# Altium footprint library Ecohydro.PcbLib: 21 footprints (part 2 of 2)
Each footprint in its own frame and in the unit in brackets; x right, y up, seen from the top. Pads: shape width x height; smd on the part's side, far side on the other; paste and mask are expansions set on the pad; w line width, h text height; cw(c..) or ccw(c..) is an arc to the next point about the centre after c.
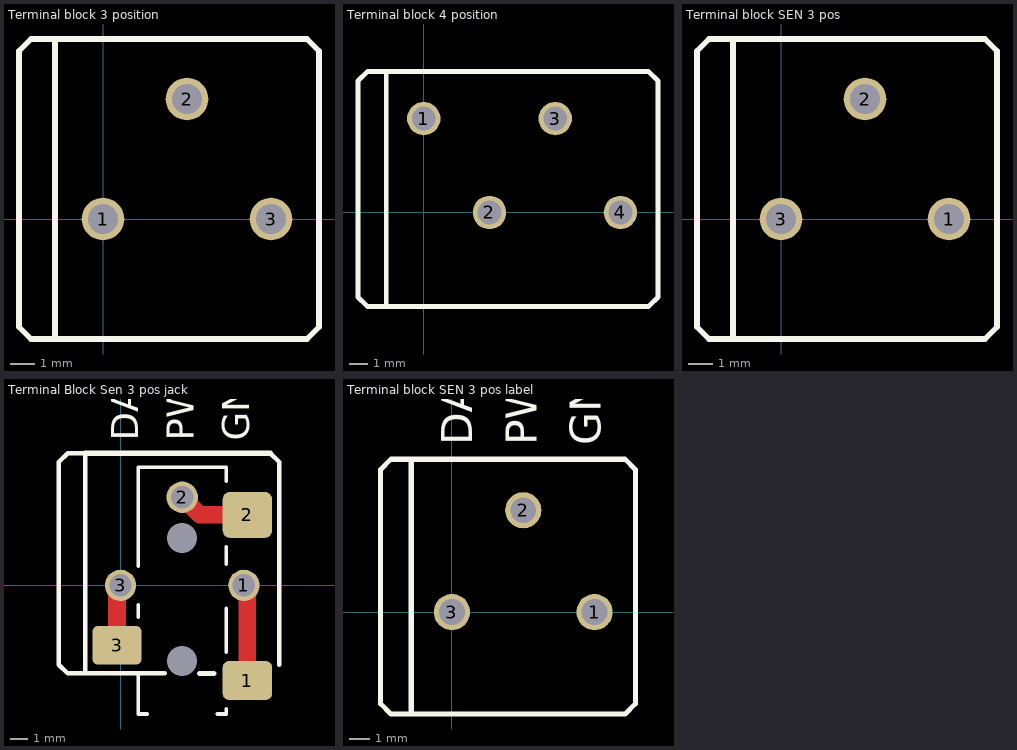
[diagram p1: the footprints below, top view; thin cyan lines are the x and y axes]

## Terminal block 3 position [mil]
height 531.5
pads (3):
  round 70 hole 50: 1(0,0) 2(137.8,196.85) 3(275.59,0)
Top Overlay:
  lines w10: -78.74,-177.17 -78.74,-196.85 ; -78.74,-196.85 334.65,-196.85 354.33,-177.17 354.33,-78.74 354.33,177.17 354.33,275.59 334.65,295.28 -78.74,295.28 ; -78.74,-196.85 -118.11,-196.85 -137.8,-177.17 -137.8,-137.8 -137.8,-118.11 -137.8,275.59 -118.11,295.28 -78.74,295.28 ; -78.74,-196.85 -78.74,295.28

## Terminal block 4 position [mil]
height 531.5
pads (4):
  round 70 hole 50: 1(0,196.85) 2(137.8,0) 3(275.59,196.85) 4(412.2,0)
Top Overlay:
  lines w10: -78.74,-177.17 -78.74,-196.85 ; 490.94,-78.74 490.94,177.17 ; -78.74,-196.85 334.65,-196.85 471.26,-196.85 490.94,-177.17 490.94,177.17 ; -78.74,-196.85 -118.11,-196.85 -137.8,-177.17 -137.8,-137.8 -137.8,-118.11 -137.8,275.59 -118.11,295.28 -78.74,295.28 ; -78.74,-196.85 -78.74,295.28 ; -78.74,295.28 334.65,295.28 471.26,295.28 490.94,275.59 490.94,177.17

## Terminal block SEN 3 pos [mil]
height 531.5
pads (3):
  round 70 hole 50: 1(275.59,0) 2(137.8,196.85) 3(0,0)
Top Overlay:
  lines w10: -78.74,-177.17 -78.74,-196.85 ; -78.74,-196.85 -78.74,295.28 ; -78.74,-196.85 -118.11,-196.85 -137.8,-177.17 -137.8,-137.8 -137.8,-118.11 -137.8,275.59 -118.11,295.28 -78.74,295.28 ; -78.74,-196.85 334.65,-196.85 354.33,-177.17 354.33,-78.74 354.33,177.17 354.33,275.59 334.65,295.28 -78.74,295.28

## Terminal Block Sen 3 pos jack [mm]
height 5.08
pads (8):
  round 1.778 hole 1.27: 1(7,0) 2(3.5,5) 3(0,0)
  rrect30% 2.8x2.2 smd: 1(7.2,-5.4) 3(-0.2,-3.4)
  rrect30% 2.8x2.6 smd: 2(7.2,4)
  round 1 hole 1.7 unplated: ""(3.5,-4.3) ""(3.5,2.7)
Top Layer:
  lines w1: -0.2,-3.4 -0.2,-0.2 0,0 ; 3.5,5 4.5,4 7.2,4 ; 7,0 7.2,-0.2 7.2,-5.4
Top Overlay:
  lines w0.203: 1,-5 1,-7.3 1.5,-7.3 ; 1,-1.8 1,-1.1 ; 1,1.1 1,6.7 6,6.7 6,5.9 ; 5.5,-7.3 6,-7.3 6,-7 ; 6,-3.8 6,-1.3 ; 6,1.2 6,2.2
  lines w0.254: -2,-4.5 -2,-5 ; 2.5,-5 -2,-5 ; 8.5,7.5 9,7 9,4.5 9,-2 9,-4.5 ; -2,-5 -2,7.5 -3,7.5 -3.5,7 -3.5,-3 -3.5,-3.5 -3.5,-4.5 -3,-5 -2,-5
  lines w0.305: -2,7.5 4.5,7.5 8.5,7.5 ; 4.5,-5 5.3,-5
  text "GND" at 7.31,8.2 h1.52
  text "PWR" at 4.155,8.2 h1.52
  text "DAT" at 1,8.2 h1.52

## Terminal block SEN 3 pos label [mil]
height 531.5
pads (3):
  round 70 hole 50: 1(275.59,0) 2(137.8,196.85) 3(0,0)
Top Overlay:
  lines w10: -78.74,-177.17 -78.74,-196.85 ; -78.74,-196.85 334.65,-196.85 354.33,-177.17 354.33,-78.74 354.33,177.17 354.33,275.59 334.65,295.28 -78.74,295.28 ; -78.74,-196.85 -118.11,-196.85 -137.8,-177.17 -137.8,-137.8 -137.8,-118.11 -137.8,275.59 -118.11,295.28 -78.74,295.28 ; -78.74,-196.85 -78.74,295.28
  text "GND" at 287.8,322.83 h60
  text "PWR" at 163.58,322.83 h60
  text "DAT" at 39.37,322.83 h60